# EAGLE library part MIC2871 (library heck)
1.2A High-Brightness LED flash driver with single-wire serial intrface.
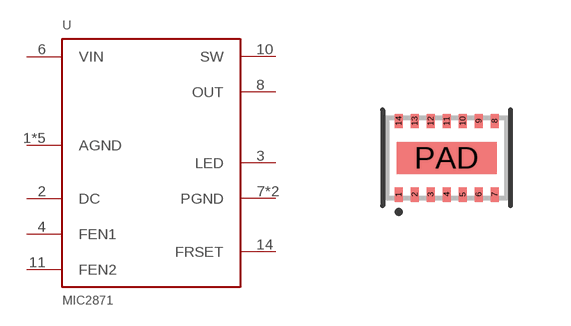
[diagram p49: symbol with the pads of LDFN-14; footprint LDFN-14]

Designator prefix U

## MIC2871YMK  [LDFN-14]
1  AGND  pwr
2  DC
3  LED  out
4  FEN1  in
5  AGND  pwr
6  VIN  pwr
7  PGND  pwr
8  OUT  pwr
9  AGND  pwr
10  SW  pwr
11  FEN2  in
12  AGND  pwr
13  PGND  pwr
14  FRSET
PAD  AGND  pwr

## Footprint LDFN-14 (pad centres in mm)
smd 0.2 x 0.36: 1 -1.2,-0.92; 2 -0.8,-0.92; 3 -0.4,-0.92; 4 0,-0.92; 5 0.4,-0.92; 6 0.8,-0.92; 7 1.2,-0.92; 8 1.2,0.92; 9 0.8,0.92; 10 0.4,0.92; 11 0,0.92; 12 -0.4,0.92; 13 -0.8,0.92; 14 -1.2,0.92
smd 2.5 x 0.8: PAD 0,0